# EAGLE library part LUPA300 (library andon)
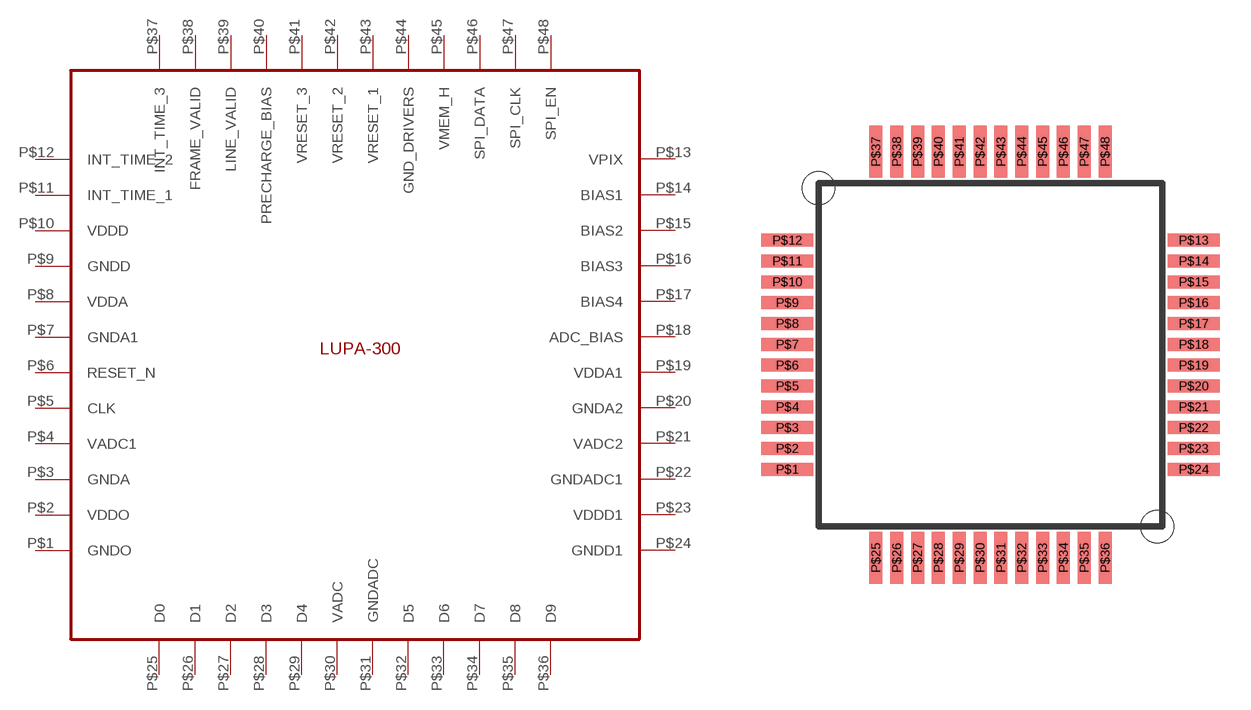
[diagram p0: symbol with the pads of LUPA300; footprint LUPA300]

Designator prefix -

## LUPA300  [LUPA300]
P$1  GNDO
P$2  VDDO
P$3  GNDA
P$4  VADC1
P$5  CLK
P$6  RESET_N
P$7  GNDA1
P$8  VDDA
P$9  GNDD
P$10  VDDD
P$11  INT_TIME_1
P$12  INT_TIME_2
P$13  VPIX
P$14  BIAS1
P$15  BIAS2
P$16  BIAS3
P$17  BIAS4
P$18  ADC_BIAS
P$19  VDDA1
P$20  GNDA2
P$21  VADC2
P$22  GNDADC1
P$23  VDDD1
P$24  GNDD1
P$25  D0
P$26  D1
P$27  D2
P$28  D3
P$29  D4
P$30  VADC
P$31  GNDADC
P$32  D5
P$33  D6
P$34  D7
P$35  D8
P$36  D9
P$37  INT_TIME_3
P$38  FRAME_VALID
P$39  LINE_VALID
P$40  PRECHARGE_BIAS
P$41  VRESET_3
P$42  VRESET_2
P$43  VRESET_1
P$44  GND_DRIVERS
P$45  VMEM_H
P$46  SPI_DATA
P$47  SPI_CLK
P$48  SPI_EN

## Footprint LUPA300 (pad centres in mm)
smd 2.54 x 0.635: P$1 -2.794,1.524; P$2 -2.794,2.54; P$3 -2.794,3.556; P$4 -2.794,4.572; P$5 -2.794,5.588; P$6 -2.794,6.604; P$7 -2.794,7.62; P$8 -2.794,8.636; P$9 -2.794,9.652; P$10 -2.794,10.668; P$11 -2.794,11.684; P$12 -2.794,12.7; P$13 17.018,12.7; P$14 17.018,11.684; P$15 17.018,10.668; P$16 17.018,9.652; P$17 17.018,8.636; P$18 17.018,7.62; P$19 17.018,6.604; P$20 17.018,5.588; P$21 17.018,4.572; P$22 17.018,3.556; P$23 17.018,2.54; P$24 17.018,1.524
smd 0.635 x 2.54: P$25 1.524,-2.794; P$26 2.54,-2.794; P$27 3.556,-2.794; P$28 4.572,-2.794; P$29 5.588,-2.794; P$30 6.604,-2.794; P$31 7.62,-2.794; P$32 8.636,-2.794; P$33 9.652,-2.794; P$34 10.668,-2.794; P$35 11.684,-2.794; P$36 12.7,-2.794; P$37 1.524,17.018; P$38 2.54,17.018; P$39 3.556,17.018; P$40 4.572,17.018; P$41 5.588,17.018; P$42 6.604,17.018; P$43 7.62,17.018; P$44 8.636,17.018; P$45 9.652,17.018; P$46 10.668,17.018; P$47 11.684,17.018; P$48 12.7,17.018
hole 1.6 at -1.27,15.24
hole 1.6 at 15.24,-1.27